# EAGLE library part LTC4060EFE#PBF (library Battery)
LTC4060 NiCd/NiMH 2A standalone charger LTC4060EFE#PBF, Battery Charge Controller, NiCD/NiMH, 2100mA, 16-Pin TSSOP EP Source: Datasheet <https://componentsearchengine.com/Datasheets/1/LTC4060EFE#PBF.pdf>
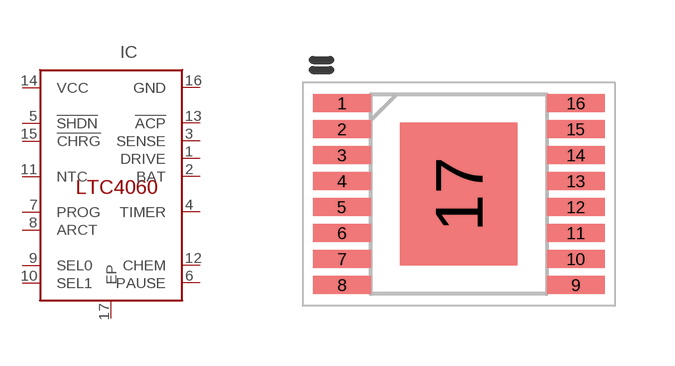
[diagram p0: symbol with the pads of SOP65P640X110-17N; footprint SOP65P640X110-17N]

Designator prefix IC

## LTC4060EFE#PBF (DESCRIPTION: LTC4060 NiCd/NiMH 2A standalone charger LTC4060EFE#PBF, Battery Charge Controller, NiCD/NiMH, 2100mA, 16-Pin TSSOP EP; HEIGHT: 1.1mm; MANUFACTURER_NAME: Linear Technology; MANUFACTURER_PART_NUMBER: LTC4060EFE#PBF; MOUSER_PART_NUMBER: 584-LTC4060EFE#PBF; MOUSER_PRICE-STOCK: https://www.mouser.com/Search/Refine.aspx?Keyword=584-LTC4060EFE%23PBF)  [SOP65P640X110-17N]
1  DRIVE
2  BAT  in
3  SENSE  in
4  TIMER  in
5  !SHDN  in
6  PAUSE  in
7  PROG  in
8  ARCT  in
9  SEL0  in
10  SEL1  in
11  NTC  in
12  CHEM  in
13  !ACP  out
14  VCC  pwr
15  !CHRG  out
16  GND  pwr
17  EP  pwr

## Footprint SOP65P640X110-17N (pad centres in mm)
FE(TSSOP)
smd 1.45 x 0.45: 1 -2.925,2.275; 2 -2.925,1.625; 3 -2.925,0.975; 4 -2.925,0.325; 5 -2.925,-0.325; 6 -2.925,-0.975; 7 -2.925,-1.625; 8 -2.925,-2.275; 9 2.925,-2.275; 10 2.925,-1.625; 11 2.925,-0.975; 12 2.925,-0.325; 13 2.925,0.325; 14 2.925,0.975; 15 2.925,1.625; 16 2.925,2.275
smd 2.94 x 3.58: 17 0,0